# EAGLE library part SAMACSYS_PARTS_MCP3001T-I_SN (library project)
Analog to Digital Converters - ADC 10-bit SPI Sgl Chl IND TEMP, SOIC8 Source: Datasheet <http://www.microchip.com/mymicrochip/filehandler.aspx?ddocname=en011533>
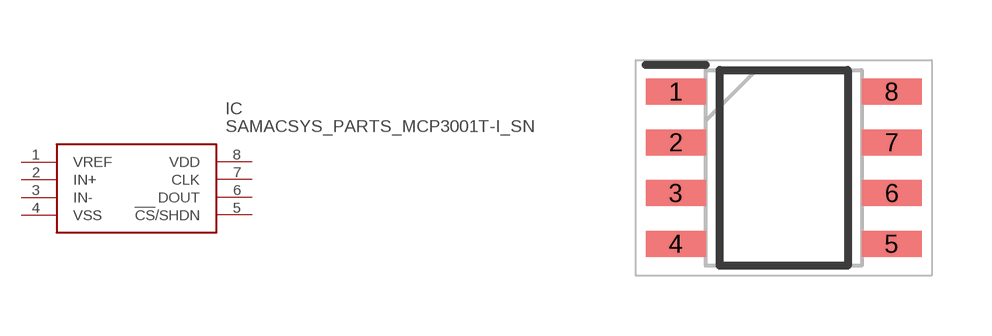
[diagram p2: symbol with the pads of SAMACSYS_PARTS_SOIC127P600X175-8N; footprint SAMACSYS_PARTS_SOIC127P600X175-8N]

Designator prefix IC

## SAMACSYS_PARTS_MCP3001T-I_SN (DESCRIPTION: Analog to Digital Converters - ADC 10-bit SPI Sgl Chl IND TEMP, SOIC8; HEIGHT: 1.75mm; MANUFACTURER_NAME: Microchip; MANUFACTURER_PART_NUMBER: MCP3001T-I/SN; MOUSER_PART_NUMBER: 579-MCP3001T-I/SN; MOUSER_PRICE-STOCK: https://www.mouser.co.uk/ProductDetail/Microchip-Technology/MCP3001T-I-SN/?qs=rh436G1KrYxYH73wf1FE%252Bw%3D%3D)  [SAMACSYS_PARTS_SOIC127P600X175-8N]
1  VREF
2  IN+
3  IN-
4  VSS
5  !CS!/SHDN
6  DOUT
7  CLK
8  VDD

## Footprint SAMACSYS_PARTS_SOIC127P600X175-8N (pad centres in mm)
soic-ren1
smd 1.5 x 0.65: 1 -2.7,1.905; 2 -2.7,0.635; 3 -2.7,-0.635; 4 -2.7,-1.905; 5 2.7,-1.905; 6 2.7,-0.635; 7 2.7,0.635; 8 2.7,1.905